# Altium schematic symbol library SCH - POWER - SWITCHMODE - TI TPS65283RGE.SchLib: 1 symbol
Pins are listed as number, name and electrical type; pins without a type are passive.

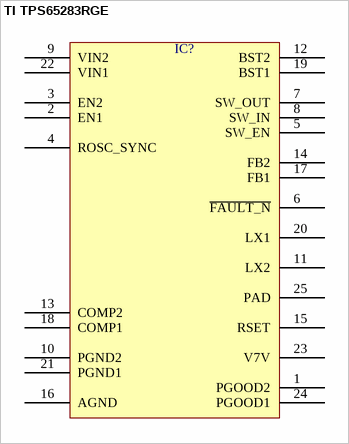
[diagram p0: symbol TI TPS65283RGE]

## TI TPS65283RGE
designator IC?  (value not drawn)
pins: 1 PGOOD2, 2 EN1, 3 EN2, 4 ROSC_SYNC, 5 SW_EN, 6 ~{FAULT_N}, 7 SW_OUT, 8 SW_IN, 9 VIN2, 10 PGND2, 11 LX2, 12 BST2, 13 COMP2, 14 FB2, 15 RSET, 16 AGND, 17 FB1, 18 COMP1, 19 BST1, 20 LX1, 21 PGND1, 22 VIN1, 23 V7V, 24 PGOOD1, 25 PAD